# Altium footprint library IPB65R150CFDAATMA1.PcbLib: 1 footprints
Each footprint in its own frame and in the unit in brackets; x right, y up, seen from the top. Pads: shape width x height; smd on the part's side, far side on the other; paste and mask are expansions set on the pad; w line width, h text height; cw(c..) or ccw(c..) is an arc to the next point about the centre after c.
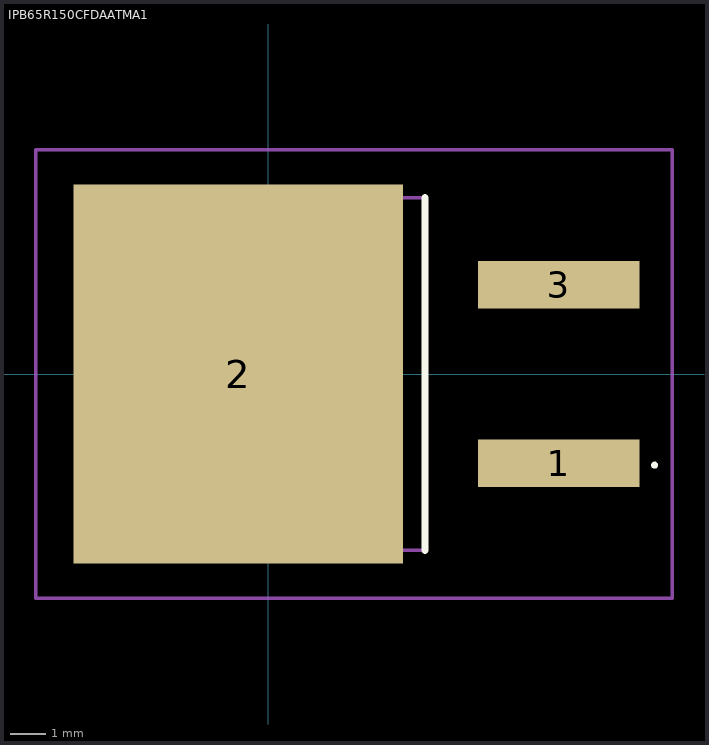
[diagram p0: the footprint, top view; thin cyan lines are the x and y axes]

## IPB65R150CFDAATMA1 [mm]
pads (3):
  rect 4.6x1.35 smd: 1(8.294,-2.55) 3(8.294,2.55)
  rect 9.4x10.8 smd: 2(-0.856,0)
Top Overlay:
  lines w0.1: 10.974,-2.6 10.974,-2.6 ; 10.974,-2.6 ccw(c11.024,-2.6) 11.074,-2.6 ; 10.974,-2.6 cw(c11.024,-2.6) 11.074,-2.6 ; 11.074,-2.6 11.074,-2.6
  lines w0.2: 4.477,-5.027 4.477,5.027
Mechanical 15:
  lines w0.1: -4.478,-5.027 4.477,-5.027 4.477,5.027 -4.478,5.027 -4.478,-5.027
Mechanical 20:
  lines w0.1: -6.624,-6.4 11.526,-6.4 11.526,6.4 -6.624,6.4 -6.624,-6.4